# Altium footprint library Generic-Schematic-Library.PcbLib: 10 footprints
Each footprint in its own frame and in the unit in brackets; x right, y up, seen from the top. Pads: shape width x height; smd on the part's side, far side on the other; paste and mask are expansions set on the pad; w line width, h text height; cw(c..) or ccw(c..) is an arc to the next point about the centre after c.
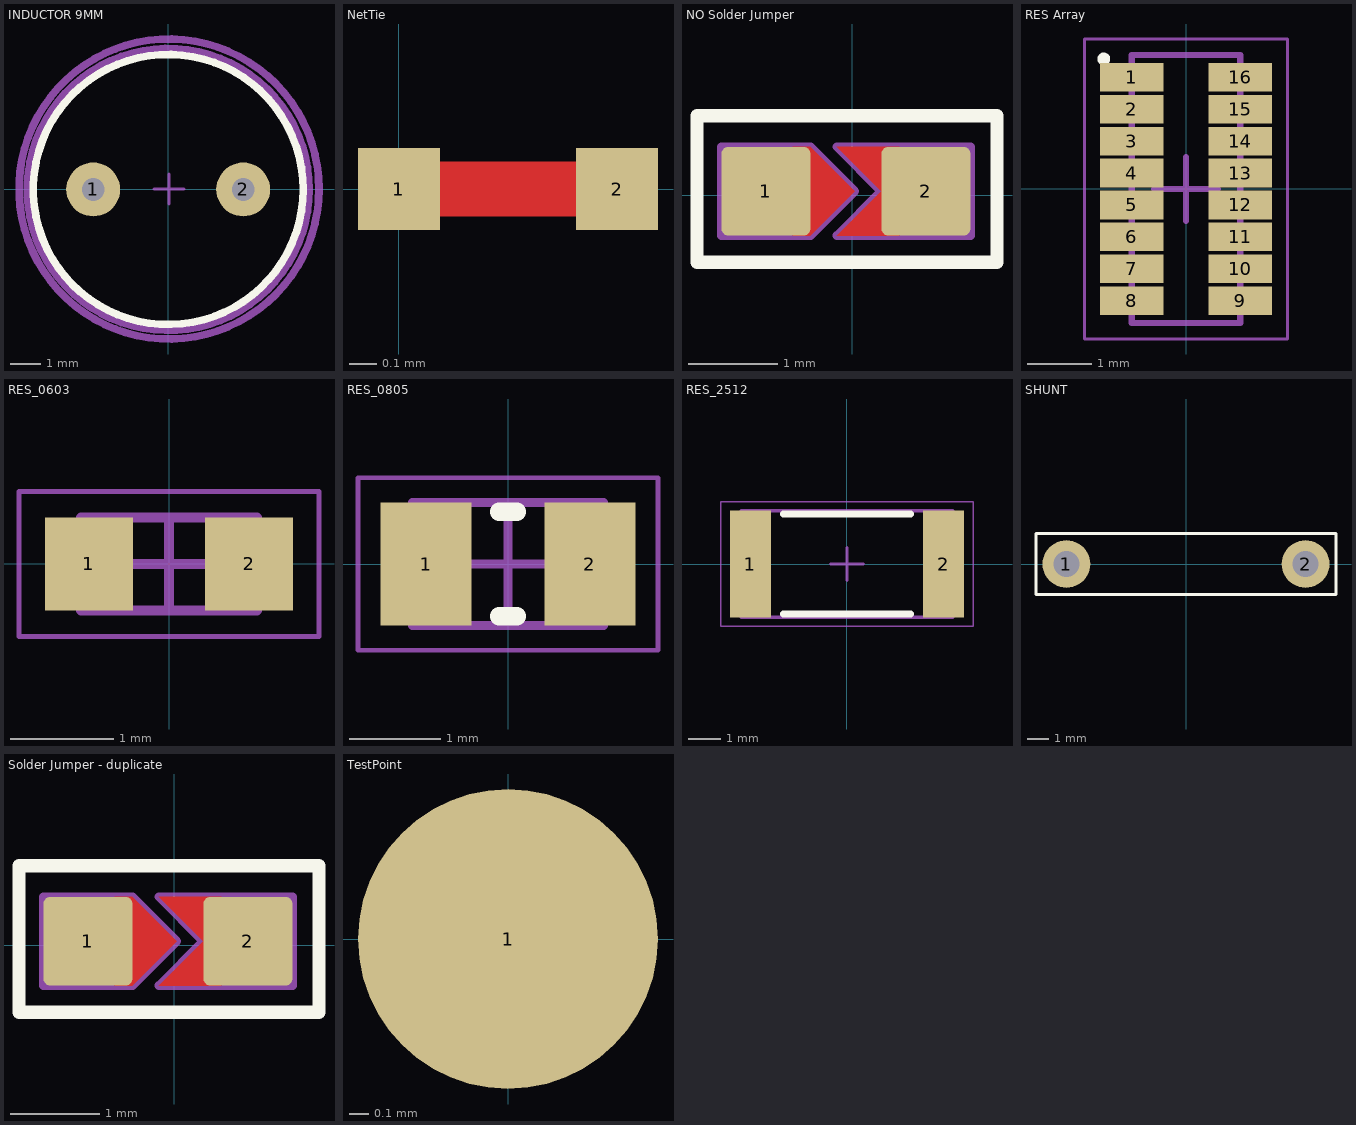
[diagram p0: the footprints below, top view; thin cyan lines are the x and y axes]

## INDUCTOR 9MM [mm]
pads (2):
  round 1.8 hole 0.762: 1(-2.5,0) 2(2.5,0)
Top Overlay:
  circle w0.254: c0,0 r4.5
Mechanical 13:
  circle w0.254: c0,0 r4.7
Mechanical 15:
  circle w0.254: c0.025,0.015 r5
  lines w0.1: -0.475,0.015 0.525,0.015 ; 0.025,-0.485 0.025,0.515
3D body "inductor.step": height 12, standoff -3, extent -4.5,-4.5 4.5,4.5

## NetTie [mm]
pads (2):
  rect 0.3x0.3 smd mask-10: 1(0,0) 2(0.8,0)
Top Layer:
  rectangle: 0.1,-0.1 0.7,0.1

## NO Solder Jumper [mm] "Solder Jumper"
pads (2):
  rrect15% 1x1 smd paste-1: 1(-0.973,0.044) 2(0.827,0.044)
Top Layer:
  region: -0.673,-0.456 -0.673,0.544 -0.473,0.544 0.027,0.044 -0.473,-0.456
  region: -0.173,-0.456 0.327,0.044 -0.173,0.544 0.527,0.544 0.527,-0.456
Top Overlay:
  lines w0.15: -1.748,-0.756 -1.748,0.894 1.627,0.894 1.627,-0.756 -1.748,-0.756
Top Solder:
  rectangle: -0.473,-0.507 0.402,0.593
Top Assembly:
  lines w0.1: -1.473,-0.456 -0.473,-0.456 0.027,0.044 -0.473,0.544 -1.473,0.544 -1.473,-0.456 ; -0.173,-0.456 1.327,-0.456 1.327,0.544 -0.173,0.544 0.327,0.044 -0.173,-0.456
Top Designator:
  text ".Designator" at -1.773,1.744 h0.5
Top Value:
  text ".Comment" at -1.798,1.094 h0.5

## RES Array [mm] "Chip Array, Flat, 16-Leads, Pitch 0,50mm,  Body 4,00x1,60mm,  IPC Medium Density"
height 0.55
pads (16):
  rect 1x0.45 smd: 1(-0.85,1.75) 2(-0.85,1.25) 3(-0.85,0.75) 4(-0.85,0.25) 5(-0.85,-0.25) 6(-0.85,-0.75) 7(-0.85,-1.25) 8(-0.85,-1.75) 9(0.85,-1.75) 10(0.85,-1.25) 11(0.85,-0.75) 12(0.85,-0.25) 13(0.85,0.25) 14(0.85,0.75) 15(0.85,1.25) 16(0.85,1.75)
Top Overlay:
  circle w0.1: c-1.287,2.038 r0.05
Mechanical 13:
  lines w0.1: -0.85,-2.1 0.85,-2.1 0.85,2.1 -0.85,2.1 -0.85,-2.1
Mechanical 15:
  lines w0.05: -1.59,-2.35 1.59,-2.35 1.59,2.35 -1.59,2.35 -1.59,-2.35
  lines w0.1: -0.5,0 0.5,0 ; 0,-0.5 0,0.5
3D body: height 0.55, standoff 0, extent -0.875,-2.1 0.875,2.1

## RES_0603 [mm] "Chip Resistor, 2-Leads, Body 0603"
height 0.55
pads (2):
  rect 0.85x0.9 smd: 1(-0.775,0) 2(0.775,0)
Mechanical 13:
  lines w0.1: -0.85,-0.45 -0.85,0.45 0.85,0.45 0.85,-0.45 -0.85,-0.45
Mechanical 15:
  lines w0.05: -1.45,-0.7 -1.45,0.7 1.45,0.7 1.45,-0.7 -1.45,-0.7
  lines w0.1: -0.45,0 0.45,0 ; 0,-0.45 0,0.45
3D body: height 0.55, standoff 0, extent -0.6,-0.45 0.6,0.45
3D body: height 0.55, standoff 0, extent -0.85,-0.45 -0.6,0.45
3D body: height 0.55, standoff 0, extent 0.6,-0.45 0.85,0.45

## RES_0805 [mm] "Chip Resistor, 2-Leads, Body 2,00x1,25mm, IPC Medium Density"
height 0.6
pads (2):
  rect 1x1.35 smd: 1(-0.9,0) 2(0.9,0)
Top Overlay:
  lines w0.2: -0.1,-0.575 0.1,-0.575 ; -0.1,0.575 0.1,0.575
Mechanical 13:
  lines w0.1: -1.05,-0.675 -1.05,0.675 1.05,0.675 1.05,-0.675 -1.05,-0.675
Mechanical 15:
  lines w0.05: -1.65,-0.95 -1.65,0.95 1.65,0.95 1.65,-0.95 -1.65,-0.95
  lines w0.1: -0.5,0 0.5,0 ; 0,-0.5 0,0.5
3D body "RES_0805.step": height 0.6, standoff 0, extent -1.05,-0.675 1.05,0.675

## RES_2512 [mm] "Chip Resistor, 2-Leads, Body 6,35x3,10mm, IPC Medium Density"
height 0.65
pads (2):
  rect 1.25x3.25 smd: 1(-2.95,0) 2(2.95,0)
Top Overlay:
  lines w0.2: -1.95,-1.525 1.95,-1.525 ; -1.95,1.525 1.95,1.525
Mechanical 13:
  lines w0.1: -3.225,-1.625 -3.225,1.625 3.225,1.625 3.225,-1.625 -3.225,-1.625
Mechanical 15:
  lines w0.05: -3.85,-1.9 -3.85,1.9 3.85,1.9 3.85,-1.9 -3.85,-1.9
  lines w0.1: -0.5,0 0.5,0 ; 0,-0.5 0,0.5
3D body: height 0.65, standoff 0, extent -2.625,-1.625 2.625,1.625
3D body: height 0.65, standoff 0, extent -3.225,-1.625 -2.625,1.625
3D body: height 0.65, standoff 0, extent 2.625,-1.625 3.225,1.625

## SHUNT [mm]
pads (2):
  round 2.2 hole 1.2: 1(-5.5,0) 2(5.5,0)
Top Overlay:
  lines w0.15: -6.9,-1.4 6.9,-1.4 6.9,1.4 -6.9,1.4 -6.9,-1.4
3D body "shunt.step": height 5, standoff -0.5, extent -5.998,-0.5 5.998,0.5

## Solder Jumper - duplicate [mm] "Solder Jumper"
pads (2):
  rrect15% 1x1 smd paste-1: 1(-0.973,0.044) 2(0.827,0.044)
Top Layer:
  region: -0.173,-0.456 0.327,0.044 -0.173,0.544 0.527,0.544 0.527,-0.456
  region: -0.673,-0.456 -0.673,0.544 -0.473,0.544 0.027,0.044 -0.473,-0.456
Top Overlay:
  lines w0.15: -1.748,-0.756 1.627,-0.756 1.627,0.894 -1.748,0.894 -1.748,-0.756
Top Solder:
  rectangle: -0.473,-0.507 0.402,0.593
Top Assembly:
  lines w0.1: -1.473,-0.456 -1.473,0.544 -0.473,0.544 0.027,0.044 -0.473,-0.456 -1.473,-0.456 ; -0.173,-0.456 0.327,0.044 -0.173,0.544 1.327,0.544 1.327,-0.456 -0.173,-0.456
Top Designator:
  text ".Designator" at -1.773,1.744 h0.5
Top Value:
  text ".Comment" at -1.798,1.094 h0.5
3D body "solder_joint.STEP": height 0.5, standoff 0, extent -1.473,-0.456 1.327,0.544

## TestPoint [mil]
pads (1):
  round 60 smd: 1(0,0)